# EAGLE library part M-2X09- (library con-headers-jp)
MALE HEADER
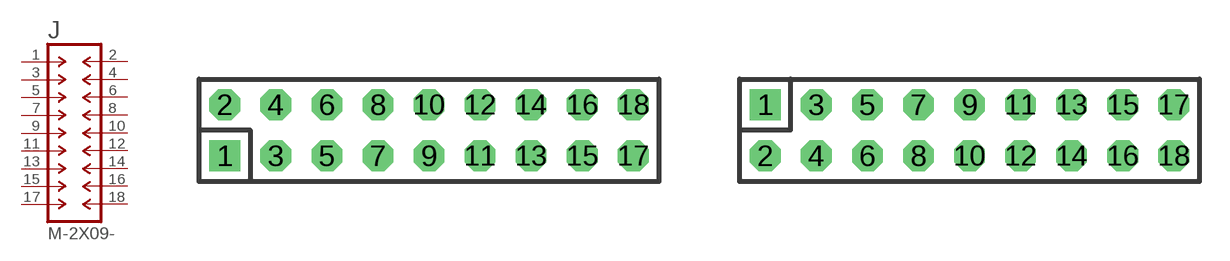
[diagram p66: symbol with the pads of DIL-100-2X09; footprints DIL-100-2X09, DIL-100-2X09_M]

Designator prefix J

## M-2X09-DIL-100  [DIL-100-2X09]
1  1  pas
2  2  pas
3  3  pas
4  4  pas
5  5  pas
6  6  pas
7  7  pas
8  8  pas
9  9  pas
10  10  pas
11  11  pas
12  12  pas
13  13  pas
14  14  pas
15  15  pas
16  16  pas
17  17  pas
18  18  pas

## M-2X09-DIL-100_M  [DIL-100-2X09_M]
Pads as for DIL-100-2X09

## M-2X09-DIL-2MM  [DIL-2MM-2X09]
Pads as for DIL-100-2X09

## M-2X09-DIL-2MM_M  [DIL-2MM-2X09_M]
Pads as for DIL-100-2X09

## M-2X09-87759  [87759-18]
Pads as for DIL-100-2X09

## M-2X09-87759_M  [87759-18_M]
Pads as for DIL-100-2X09

## Footprint DIL-100-2X09 (pad centres in mm)
PIN HEADER - 0.1"
drill 1.016 square: 1 -10.16,-1.27
drill 1.016 octagon: 2 -10.16,1.27; 3 -7.62,-1.27; 4 -7.62,1.27; 5 -5.08,-1.27; 6 -5.08,1.27; 7 -2.54,-1.27; 8 -2.54,1.27; 9 0,-1.27; 10 0,1.27; 11 2.54,-1.27; 12 2.54,1.27; 13 5.08,-1.27; 14 5.08,1.27; 15 7.62,-1.27; 16 7.62,1.27; 17 10.16,-1.27; 18 10.16,1.27

## Footprint DIL-100-2X09_M (pad centres in mm)
PIN HEADER - MIRRORED 0.1"
drill 1.016 square: 1 -10.16,1.27
drill 1.016 octagon: 2 -10.16,-1.27; 3 -7.62,1.27; 4 -7.62,-1.27; 5 -5.08,1.27; 6 -5.08,-1.27; 7 -2.54,1.27; 8 -2.54,-1.27; 9 0,1.27; 10 0,-1.27; 11 2.54,1.27; 12 2.54,-1.27; 13 5.08,1.27; 14 5.08,-1.27; 15 7.62,1.27; 16 7.62,-1.27; 17 10.16,1.27; 18 10.16,-1.27

## Footprint DIL-2MM-2X09 (pad centres in mm)
PIN HEADER - 2MM"
drill 0.711 pad 1.321 square: 1 -8,-1
drill 0.711 pad 1.321: 2 -8,1; 3 -6,-1; 4 -6,1; 5 -4,-1; 6 -4,1; 7 -2,-1; 8 -2,1; 9 0,-1; 10 0,1; 11 2,-1; 12 2,1; 13 4,-1; 14 4,1; 15 6,-1; 16 6,1; 17 8,-1; 18 8,1

## Footprint DIL-2MM-2X09_M (pad centres in mm)
PIN HEADER - MIRRORED 2MM
drill 0.711 pad 1.321 square: 1 -8,1
drill 0.711 pad 1.321: 2 -8,-1; 3 -6,1; 4 -6,-1; 5 -4,1; 6 -4,-1; 7 -2,1; 8 -2,-1; 9 0,1; 10 0,-1; 11 2,1; 12 2,-1; 13 4,1; 14 4,-1; 15 6,1; 16 6,-1; 17 8,1; 18 8,-1

## Footprint 87759-18 (pad centres in mm)
Molex PCB Pin Headers 2.00mm (.079") Pitch Milli-Grid Header, Vertical SMD
smd 1 x 2.75: 1 -8,-2.15; 2 -8,2.15; 3 -6,-2.15; 4 -6,2.15; 5 -4,-2.15; 6 -4,2.15; 7 -2,-2.15; 8 -2,2.15; 9 0,-2.15; 10 0,2.15; 11 2,-2.15; 12 2,2.15; 13 4,-2.15; 14 4,2.15; 15 6,-2.15; 16 6,2.15; 17 8,-2.15; 18 8,2.15
hole 1 at -7,0
hole 1 at 7,0

## Footprint 87759-18_M (pad centres in mm)
Molex PCB Pin Headers - MIRRORED PADS 2.00mm (.079") Pitch Milli-Grid Header, Vertical SMD
smd 1 x 2.75: 1 -8,2.15; 2 -8,-2.15; 3 -6,2.15; 4 -6,-2.15; 5 -4,2.15; 6 -4,-2.15; 7 -2,2.15; 8 -2,-2.15; 9 0,2.15; 10 0,-2.15; 11 2,2.15; 12 2,-2.15; 13 4,2.15; 14 4,-2.15; 15 6,2.15; 16 6,-2.15; 17 8,2.15; 18 8,-2.15
hole 1 at -7,0
hole 1 at 7,0